# Altium footprint library lib.PcbLib: 32 footprints (part 2 of 2)
Each footprint in its own frame and in the unit in brackets; x right, y up, seen from the top. Pads: shape width x height; smd on the part's side, far side on the other; paste and mask are expansions set on the pad; w line width, h text height; cw(c..) or ccw(c..) is an arc to the next point about the centre after c.
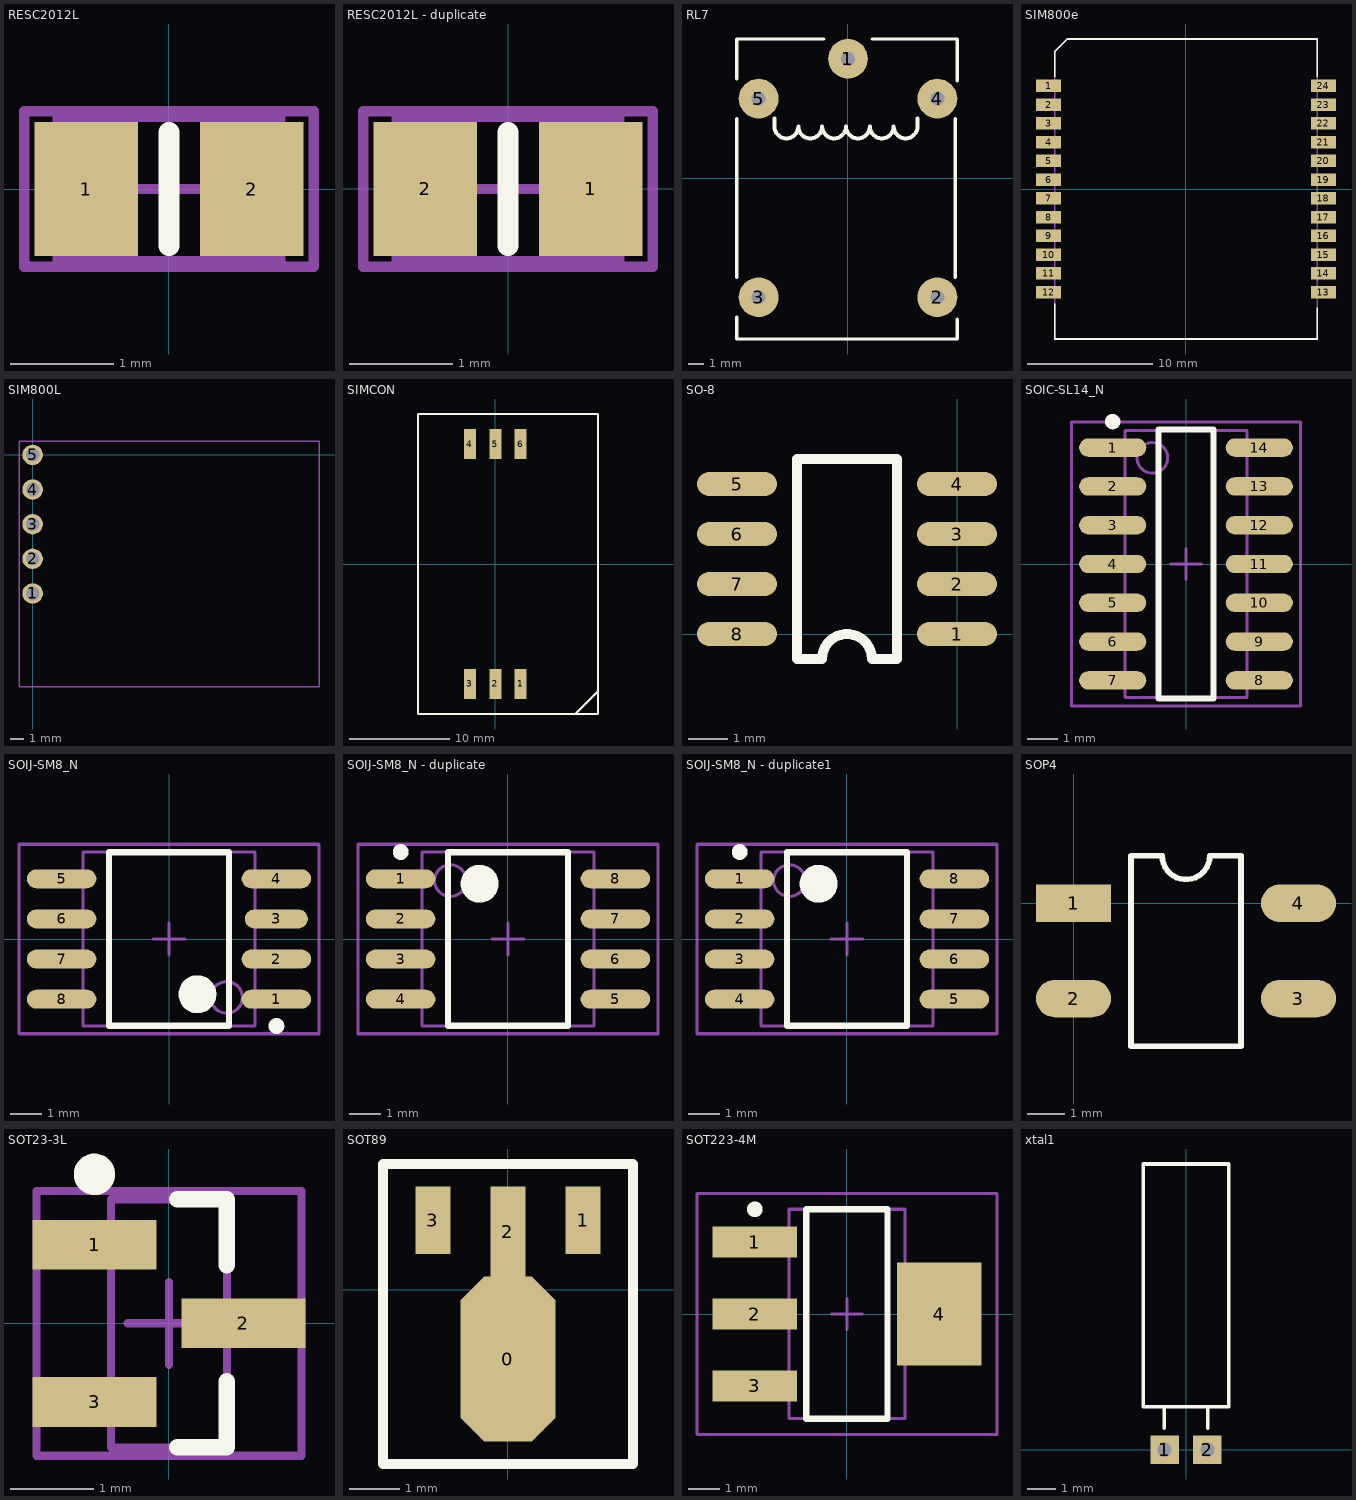
[diagram p1: the footprints below, top view; thin cyan lines are the x and y axes]

## RESC2012L [mm] "Chip Resistor, Body 2.0x1.3mm, IPC High Density"
height 0.65
pads (2):
  rect 1x1.3 smd: 1(-0.8,0) 2(0.8,0)
Top Overlay:
  lines w0.2: 0,-0.55 0,0.55
Mechanical 13:
  lines w0.1: -1.075,-0.7 1.075,-0.7 1.075,0.7 -1.075,0.7 -1.075,-0.7
Mechanical 15:
  lines w0.1: -0.5,0 0.5,0 ; 0,-0.5 0,0.5 ; -1.4,-0.75 1.4,-0.75 1.4,0.75 -1.4,0.75 -1.4,-0.75
3D body: height 0.65, standoff 0, extent -1.075,-0.7 1.075,0.7

## RESC2012L - duplicate [mm] "Chip Resistor, Body 2.0x1.3mm, IPC High Density"
height 0.65
pads (2):
  rect 1x1.3 smd: 1(0.8,0) 2(-0.8,0)
Top Overlay:
  lines w0.2: 0,-0.55 0,0.55
Mechanical 13:
  lines w0.1: -1.075,-0.7 -1.075,0.7 1.075,0.7 1.075,-0.7 -1.075,-0.7
Mechanical 15:
  lines w0.1: -0.5,0 0.5,0 ; 0,-0.5 0,0.5 ; -1.4,-0.75 -1.4,0.75 1.4,0.75 1.4,-0.75 -1.4,-0.75
3D body: height 0.65, standoff 0, extent -0.7,-1.075 0.7,1.075

## RL7 [mil]
pads (5):
  round 100 hole 35: 1(0,300) 2(225,-300) 3(-225,-300) 4(225,200) 5(-225,200)
Top Overlay:
  lines w7.87: -280,-350 -280,-405 275,-405 275,-355 ; -280,-250 -280,150 ; -280,250 -280,350 -60,350 ; 60,350 275,350 275,245 ; 270,-250 270,150
  lines w10: -185,150 -185,130 ccw(c-155,130) -125,130 ccw(c-95,130) -65,130 ccw(c-35,130) -5,130 ccw(c25,130) 55,130 ccw(c85,130) 115,130 ccw(c145,130) 175,130 175,150

## SIM800e [mm]
pads (24):
  rect 2x1 smd paste+0 mask+0.01: 1(-11,8.25) 2(-11,6.75) 3(-11,5.25) 4(-11,3.75) 5(-11,2.25) 6(-11,0.75) 7(-11,-0.75) 8(-11,-2.25) 9(-11,-3.75) 10(-11,-5.25) 11(-11,-6.75) 12(-11,-8.25) 13(11,-8.25) 14(11,-6.75) 15(11,-5.25) 16(11,-3.75) 17(11,-2.25) 18(11,-0.75) 19(11,0.75) 20(11,2.25) 21(11,3.75) 22(11,5.25) 23(11,6.75) 24(11,8.25)
Top Overlay:
  lines w0.127: -10.5,-9.2 -10.5,-12 10.5,-12 10.5,-9.5 ; -10.5,9 -10.5,11 ; 10.5,9 10.5,12 -9.5,12 -10.5,11 ; -10.5,11 -10.5,11
Mechanical 13:
  lines w0.127: -10.5,-12 10.5,-12 10.5,12 -9.5,12 -10.5,11 -10.5,-12
3D body: height 1.75, standoff 0, extent -10.5,-12 10.5,12

## SIM800L [mm]
pads (5):
  round 1.5 hole 1 mask+0.01: 1(0,-10.16) 2(0,-7.62) 3(0,-5.08) 4(0,-2.54) 5(0,0)
Mechanical 15:
  lines w0.1: -1,-17 21,-17 21,1 -1,1 -1,-17

## SIMCON [mm]
pads (6):
  rect 1.2x3 smd: 1(2.54,-12) 2(0,-12) 3(-2.54,-12) 4(-2.54,12) 5(0,12) 6(2.54,12)
Top Overlay:
  lines w0.2: 8,-15 10.27,-12.73 10.27,-12 ; -7.73,-15 10.27,-15 10.27,15 -7.73,15 -7.73,-15

## SO-8 [mil]
height 43.31
pads (8):
  oval 80x24 smd: 1(0,0) 2(0,50) 3(0,100) 4(0,150) 5(-220,150) 6(-220,100) 7(-220,50) 8(-220,0)
Top Overlay:
  lines w10: -160,-25 -160,175 -60,175 -60,-25 -85,-25 ccw(c-110,-25) -135,-25 -160,-25

## SOIC-SL14_N [mm] "SOIC, 14-Leads, Body 8.7x3.9mm, Pitch 1.27mm, IPC Medium Density"
height 1.75
pads (14):
  oval 2.2x0.6 smd: 1(-2.4,3.81) 2(-2.4,2.54) 3(-2.4,1.27) 4(-2.4,0) 5(-2.4,-1.27) 6(-2.4,-2.54) 7(-2.4,-3.81) 8(2.4,-3.81) 9(2.4,-2.54) 10(2.4,-1.27) 11(2.4,0) 12(2.4,1.27) 13(2.4,2.54) 14(2.4,3.81)
Top Overlay:
  circle w0.25: c-2.4,4.66 r0.125
  lines w0.2: -0.9,-4.4 -0.9,4.4 0.9,4.4 0.9,-4.4 -0.9,-4.4
Mechanical 13:
  circle w0.1: c-1.1,3.475 r0.5
  lines w0.1: -2,-4.375 -2,4.375 2,4.375 2,-4.375 -2,-4.375
Mechanical 15:
  lines w0.1: -0.5,0 0.5,0 ; 0,-0.5 0,0.5 ; -3.75,-4.65 -3.75,4.65 3.75,4.65 3.75,-4.65 -3.75,-4.65
3D body: height 1.75, standoff 0, extent -2,-4.375 2,4.375

## SOIJ-SM8_N [mm] "SOP, 8-Leads, Body 5.2x5.2mm, Pitch 1.27mm, IPC Medium Density"
height 2.04
pads (8):
  oval 2.2x0.6 smd: 1(3.4,-1.905) 2(3.4,-0.635) 4(3.4,1.905) 5(-3.4,1.905) 6(-3.4,0.635) 7(-3.4,-0.635) 8(-3.4,-1.905)
  oval 2x0.6 smd: 3(3.4,0.635)
Top Overlay:
  circle w0.6: c0.9,-1.75 r0.3
  circle w0.25: c3.4,-2.755 r0.125
  lines w0.2: -1.9,-2.75 1.9,-2.75 1.9,2.75 -1.9,2.75 -1.9,-2.75
Mechanical 13:
  circle w0.1: c1.825,-1.85 r0.5
  lines w0.1: -2.725,-2.75 2.725,-2.75 2.725,2.75 -2.725,2.75 -2.725,-2.75
Mechanical 15:
  lines w0.1: -0.5,0 0.5,0 ; 0,-0.5 0,0.5 ; -4.75,-3 4.75,-3 4.75,3 -4.75,3 -4.75,-3
3D body: height 2.04, standoff 0, extent -2.75,-2.725 2.75,2.725

## SOIJ-SM8_N - duplicate [mm] "SOP, 8-Leads, Body 5.2x5.2mm, Pitch 1.27mm, IPC Medium Density"
height 2.04
pads (8):
  oval 2.2x0.6 smd: 1(-3.4,1.905) 2(-3.4,0.635) 3(-3.4,-0.635) 4(-3.4,-1.905) 5(3.4,-1.905) 6(3.4,-0.635) 7(3.4,0.635) 8(3.4,1.905)
Top Overlay:
  circle w0.25: c-3.4,2.755 r0.125
  circle w0.6: c-0.9,1.75 r0.3
  lines w0.2: -1.9,-2.75 -1.9,2.75 1.9,2.75 1.9,-2.75 -1.9,-2.75
Mechanical 13:
  circle w0.1: c-1.825,1.85 r0.5
  lines w0.1: -2.725,-2.75 -2.725,2.75 2.725,2.75 2.725,-2.75 -2.725,-2.75
Mechanical 15:
  lines w0.1: -0.5,0 0.5,0 ; 0,-0.5 0,0.5 ; -4.75,-3 -4.75,3 4.75,3 4.75,-3 -4.75,-3
3D body: height 2.04, standoff 0, extent -2.725,-2.75 2.725,2.75

## SOIJ-SM8_N - duplicate1 [mm] "SOP, 8-Leads, Body 5.2x5.2mm, Pitch 1.27mm, IPC Medium Density"
height 2.04
pads (8):
  oval 2.2x0.6 smd: 1(-3.4,1.905) 2(-3.4,0.635) 3(-3.4,-0.635) 4(-3.4,-1.905) 5(3.4,-1.905) 6(3.4,-0.635) 7(3.4,0.635) 8(3.4,1.905)
Top Overlay:
  circle w0.6: c-0.9,1.75 r0.3
  circle w0.25: c-3.4,2.755 r0.125
  lines w0.2: -1.9,-2.75 1.9,-2.75 1.9,2.75 -1.9,2.75 -1.9,-2.75
Mechanical 13:
  circle w0.1: c-1.825,1.85 r0.5
  lines w0.1: -2.725,-2.75 2.725,-2.75 2.725,2.75 -2.725,2.75 -2.725,-2.75
Mechanical 15:
  lines w0.1: -0.5,0 0.5,0 ; 0,-0.5 0,0.5 ; -4.75,-3 4.75,-3 4.75,3 -4.75,3 -4.75,-3
3D body: height 2.04, standoff 0, extent -2.725,-2.75 2.725,2.75

## SOP4 [mm]
pads (4):
  rect 2x1 smd: 1(0,0)
  oval 2x1 smd: 2(0,-2.54) 3(6,-2.54) 4(6,0)
Top Overlay:
  lines w0.15: 1.535,-3.81 1.535,1.27 2.365,1.27 ccw(c3,1.27) 3.635,1.27 4.465,1.27 4.465,-3.81 1.535,-3.81

## SOT23-3L [mm] "SOT23, 3-Leads, Body 2.9x1.3mm, Pitch 0.95mm, Lead Span 2.5mm, IPC High Density"
height 1.1
pads (3):
  rect 1.5x0.6 smd: 1(-0.9,0.95) 2(0.9,0) 3(-0.9,-0.95)
Top Overlay:
  circle w0.25: c-0.9,1.8 r0.125
  lines w0.2: 0.1,-1.5 0.7,-1.5 0.7,-0.7 ; 0.1,1.5 0.7,1.5 0.7,0.7
Mechanical 13:
  lines w0.1: -0.7,-1.5 -0.7,1.5 0.7,1.5 0.7,-1.5 -0.7,-1.5
Mechanical 15:
  lines w0.1: -0.5,0 0.5,0 ; 0,-0.5 0,0.5 ; -1.6,-1.6 -1.6,1.6 1.6,1.6 1.6,-1.6 -1.6,-1.6
3D body: height 1.1, standoff 0, extent -0.7,-1.5 0.7,1.5

## SOT89 [mm] "SOT-89; Body 4.6 x 4.25 mm, inc. leads (LxW max)"
height 1.6
pads (4):
  oct 1.9x3.3 smd: 0(0,-1.388)
  rect 0.7x1.35 smd: 1(1.5,1.388) 3(-1.5,1.388)
  rect 0.7x1.8 smd: 2(0,1.162)
Top Overlay:
  lines w0.2: -2.5,-3.487 -2.5,2.512 2.5,2.512 2.5,-3.487 -2.5,-3.487

## SOT223-4M [mm] "SOT223, 4-Leads, Body 6.5x3.5mm, Pitch 2.3mm, Lead Span 7mm, IPC Low Density"
height 1.8
pads (4):
  rect 2.7x1 smd: 1(-2.95,2.3) 2(-2.95,0) 3(-2.95,-2.3)
  rect 2.7x3.3 smd: 4(2.95,0)
Top Overlay:
  circle w0.25: c-2.95,3.35 r0.125
  lines w0.2: -1.3,-3.35 -1.3,3.35 1.3,3.35 1.3,-3.35 -1.3,-3.35
Mechanical 13:
  lines w0.1: -1.85,-3.35 -1.85,3.35 1.85,3.35 1.85,-3.35 -1.85,-3.35
Mechanical 15:
  lines w0.1: -0.5,0 0.5,0 ; 0,-0.5 0,0.5 ; -4.8,-3.85 -4.8,3.85 4.8,3.85 4.8,-3.85 -4.8,-3.85
3D body: height 1.8, standoff 0, extent -1.85,-3.35 1.85,3.35

## xtal1 [mm]
pads (2):
  rect 1x1 hole 0.5: 1(-0.75,0) 2(0.75,0)
Top Overlay:
  lines w0.127: -0.762,0.762 -0.762,1.508 ; 0.762,0.762 0.762,1.508 ; -1.5,1.508 1.5,1.508 1.5,10 -1.5,10 -1.5,1.508